# EAGLE library part RJ45_NO_SHLD (library OpenMotics)
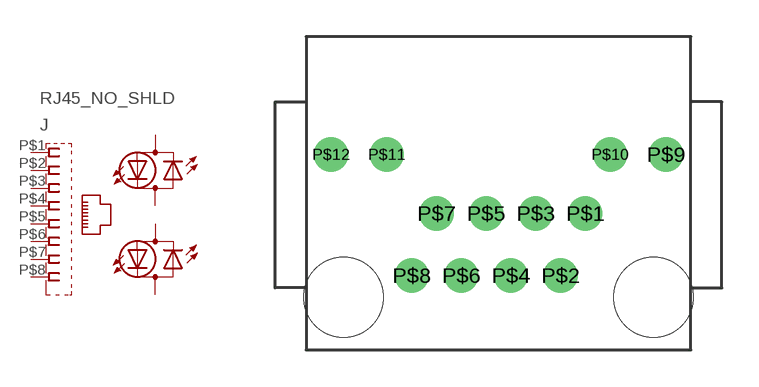
[diagram p18: symbol with the pads of RJHSE_308X; footprint RJHSE_308X]

Designator prefix J

## RJ45_NO_SHLD  [RJHSE_308X]
P$1  1  pas
P$2  2  pas
P$3  3  pas
P$4  4  pas
P$5  5  pas
P$6  6  pas
P$7  7  pas
P$8  8  pas
P$9  C  pas
P$10  A  pas
P$11  C1  pas
P$12  A1  pas

## Footprint RJHSE_308X (pad centres in mm)
drill 0.889 round: P$1 3.556,3.429; P$2 2.54,0.889; P$3 1.524,3.429; P$4 0.508,0.889; P$5 -0.508,3.429; P$6 -1.524,0.889; P$7 -2.54,3.429; P$8 -3.556,0.889; P$9 6.858,5.842; P$10 4.572,5.842; P$11 -4.572,5.842; P$12 -6.858,5.842
hole 3.251 at -6.35,0
hole 3.251 at 6.35,0